# Altium footprint library 623 3xx 210 21.PcbLib: 7 footprints
Each footprint in its own frame and in the unit in brackets; x right, y up, seen from the top. Pads: shape width x height; smd on the part's side, far side on the other; paste and mask are expansions set on the pad; w line width, h text height; cw(c..) or ccw(c..) is an arc to the next point about the centre after c.
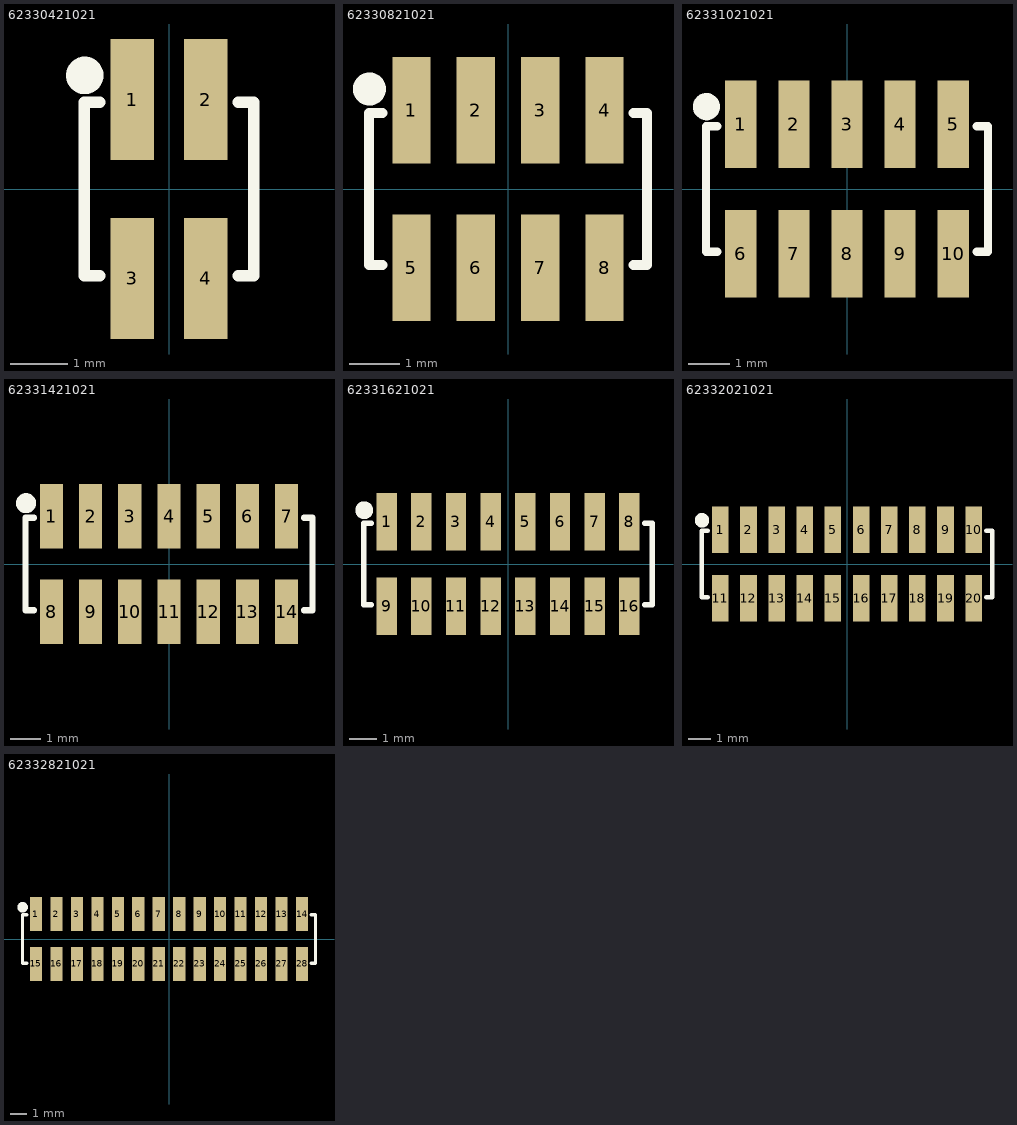
[diagram p0: the footprints below, top view; thin cyan lines are the x and y axes]

## 62330421021 [mm] "Dual SMT Socket Header, 4 pins"
height 4.5
pads (4):
  rect 0.75x2.1 smd: 1(-0.635,1.55) 2(0.635,1.55) 3(-0.635,-1.55) 4(0.635,-1.55)
Top Overlay:
  circle w0.4: c-1.46,1.97 r0.125
  lines w0.2: -1.2,-1.5 -1.47,-1.5 -1.47,1.5 -1.2,1.5 ; 1.2,-1.5 1.47,-1.5 1.47,1.5 1.2,1.5
3D body "62330421021.stp": height 4.5, standoff 0, extent -1.47,-2.4 1.47,2.4

## 62330821021 [mm] "Dual SMT Socket Header, 8 pins"
height 4.5
pads (8):
  rect 0.75x2.1 smd: 1(-1.905,1.55) 2(-0.635,1.55) 3(0.635,1.55) 4(1.905,1.55) 5(-1.905,-1.55) 6(-0.635,-1.55) 7(0.635,-1.55) 8(1.905,-1.55)
Top Overlay:
  circle w0.4: c-2.73,1.97 r0.125
  lines w0.2: -2.47,-1.5 -2.74,-1.5 -2.74,1.5 -2.47,1.5 ; 2.47,-1.5 2.74,-1.5 2.74,1.5 2.47,1.5
3D body "62330821021.stp": height 4.5, standoff 0, extent -2.74,-2.4 2.74,2.4

## 62331021021 [mm] "Dual SMT Socket Header, 10 pins"
height 4.5
pads (10):
  rect 0.75x2.1 smd: 1(-2.54,1.55) 2(-1.27,1.55) 3(0,1.55) 4(1.27,1.55) 5(2.54,1.55) 6(-2.54,-1.55) 7(-1.27,-1.55) 8(0,-1.55) 9(1.27,-1.55) 10(2.54,-1.55)
Top Overlay:
  circle w0.4: c-3.365,1.97 r0.125
  lines w0.2: -3.105,-1.5 -3.375,-1.5 -3.375,1.5 -3.105,1.5 ; 3.105,-1.5 3.375,-1.5 3.375,1.5 3.105,1.5
3D body "62331021021.stp": height 4.5, standoff 0, extent -3.375,-2.4 3.375,2.4

## 62331421021 [mm] "Dual SMT Socket Header, 14 pins"
height 4.5
pads (14):
  rect 0.75x2.1 smd: 1(-3.81,1.55) 2(-2.54,1.55) 3(-1.27,1.55) 4(0,1.55) 5(1.27,1.55) 6(2.54,1.55) 7(3.81,1.55) 8(-3.81,-1.55) 9(-2.54,-1.55) 10(-1.27,-1.55) 11(0,-1.55) 12(1.27,-1.55) 13(2.54,-1.55) 14(3.81,-1.55)
Top Overlay:
  circle w0.4: c-4.635,1.97 r0.125
  lines w0.2: -4.375,-1.5 -4.645,-1.5 -4.645,1.5 -4.375,1.5 ; 4.375,-1.5 4.645,-1.5 4.645,1.5 4.375,1.5
3D body "62331421021.stp": height 4.5, standoff 0, extent -4.645,-2.4 4.645,2.4

## 62331621021 [mm] "Dual SMT Socket Header, 16 pins"
height 4.5
pads (16):
  rect 0.75x2.1 smd: 1(-4.445,1.55) 2(-3.175,1.55) 3(-1.905,1.55) 4(-0.635,1.55) 5(0.635,1.55) 6(1.905,1.55) 7(3.175,1.55) 8(4.445,1.55) 9(-4.445,-1.55) 10(-3.175,-1.55) 11(-1.905,-1.55) 12(-0.635,-1.55) 13(0.635,-1.55) 14(1.905,-1.55) 15(3.175,-1.55) 16(4.445,-1.55)
Top Overlay:
  circle w0.4: c-5.27,1.97 r0.125
  lines w0.2: -5.01,-1.5 -5.28,-1.5 -5.28,1.5 -5.01,1.5 ; 5.01,-1.5 5.28,-1.5 5.28,1.5 5.01,1.5
3D body "62331621021.stp": height 4.5, standoff 0, extent -5.28,-2.4 5.28,2.4

## 62332021021 [mm] "Dual SMT Socket Header, 20 pins"
height 4.5
pads (20):
  rect 0.75x2.1 smd: 1(-5.715,1.55) 2(-4.445,1.55) 3(-3.175,1.55) 4(-1.905,1.55) 5(-0.635,1.55) 6(0.635,1.55) 7(1.905,1.55) 8(3.175,1.55) 9(4.445,1.55) 10(5.715,1.55) 11(-5.715,-1.55) 12(-4.445,-1.55) 13(-3.175,-1.55) 14(-1.905,-1.55) 15(-0.635,-1.55) 16(0.635,-1.55) 17(1.905,-1.55) 18(3.175,-1.55) 19(4.445,-1.55) 20(5.715,-1.55)
Top Overlay:
  circle w0.4: c-6.54,1.97 r0.125
  lines w0.2: -6.28,-1.5 -6.55,-1.5 -6.55,1.5 -6.28,1.5 ; 6.28,-1.5 6.55,-1.5 6.55,1.5 6.28,1.5
3D body "62332021021.stp": height 4.5, standoff 0, extent -6.55,-2.4 6.55,2.4

## 62332821021 [mm] "Dual SMT Socket Header, 28 pins"
height 4.5
pads (28):
  rect 0.75x2.1 smd: 1(-8.255,1.55) 2(-6.985,1.55) 3(-5.715,1.55) 4(-4.445,1.55) 5(-3.175,1.55) 6(-1.905,1.55) 7(-0.635,1.55) 8(0.635,1.55) 9(1.905,1.55) 10(3.175,1.55) 11(4.445,1.55) 12(5.715,1.55) 13(6.985,1.55) 14(8.255,1.55) 15(-8.255,-1.55) 16(-6.985,-1.55) 17(-5.715,-1.55) 18(-4.445,-1.55) 19(-3.175,-1.55) 20(-1.905,-1.55) 21(-0.635,-1.55) 22(0.635,-1.55) 23(1.905,-1.55) 24(3.175,-1.55) 25(4.445,-1.55) 26(5.715,-1.55) 27(6.985,-1.55) 28(8.255,-1.55)
Top Overlay:
  circle w0.4: c-9.08,1.97 r0.125
  lines w0.2: -8.82,-1.5 -9.09,-1.5 -9.09,1.5 -8.82,1.5 ; 8.82,-1.5 9.09,-1.5 9.09,1.5 8.82,1.5
3D body "62332821021.stp": height 4.5, standoff 0, extent -9.09,-2.4 9.09,2.4